# EAGLE library part MCP41010 (library X893)
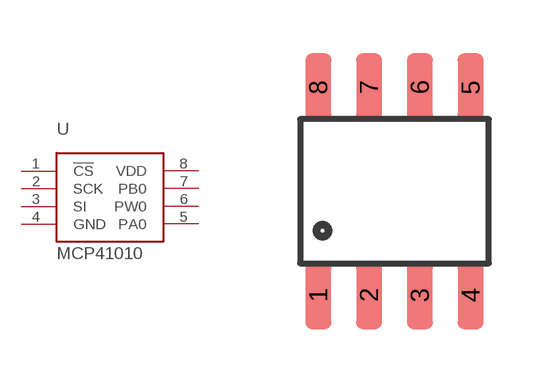
[diagram p131: symbol with the pads of SO08; footprint SO08]

Designator prefix -

## MCP41010U  [SO08]
1  !CS
2  SCK
3  SI
4  GND
5  PA0
6  PW0
7  PB0
8  VDD

## Footprint SO08 (pad centres in mm)
Small Outline Package Fits JEDEC packages (narrow SOIC-8)
smd 0.65 x 1.7: 1 -1.905,-2.6; 2 -0.635,-2.6; 3 0.635,-2.6; 4 1.905,-2.6; 5 1.905,2.6; 6 0.635,2.6; 7 -0.635,2.6; 8 -1.905,2.6